# EAGLE library part PTD902 (library pot-extra)
16mm Potentiometer two level Source: http://www.alphapotentiometers.net/html/16mm_pot_2.html
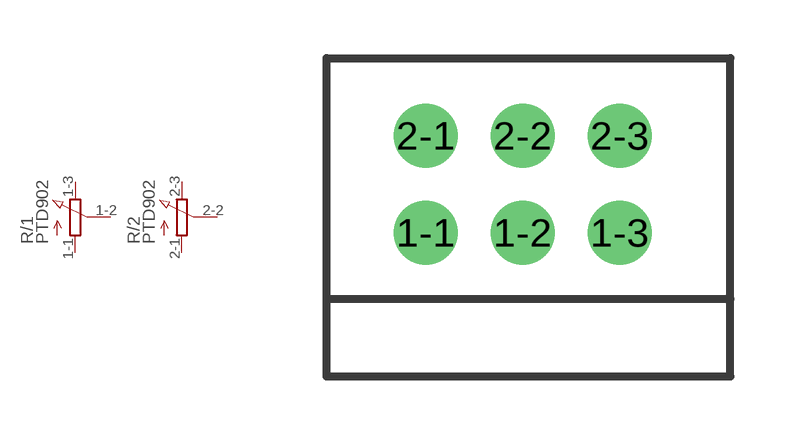
[diagram p0: symbol with the pads of PTD902; footprint PTD902]

Designator prefix R; gates /1=POT_EU- /2=POT_EU-

## PTD902  [PTD902]
1-1  /1:A  pas
1-2  /1:S  pas
1-3  /1:E  pas
2-1  /2:A  pas
2-2  /2:S  pas
2-3  /2:E  pas

## Footprint PTD902 (pad centres in mm)
16mm Potentiometer two level Source: http://www.alphapotentiometers.net/html/16mm_pot_2.html
drill 1.1: 1-1 -2.5,0; 1-2 0,0; 1-3 2.5,0; 2-1 -2.5,2.5; 2-2 0,2.5; 2-3 2.5,2.5